# Altium schematic symbol library Motor_parts_sch_lib.SchLib: 2 symbols
Pins are listed as number, name and electrical type; pins without a type are passive.

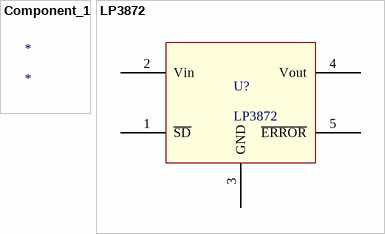
[diagram p0: symbols Component_1 to LP3872]

## Component_1
designator *

## LP3872
designator U?
footprint SOT150P700X180-5N (SOT223, 5-Leads, Body 6.50x7.00mm (avg), Pitch 1.50mm, IPC Medium Density)
pins: 1 ~{SD}, 2 Vin, 3 GND, 4 Vout, 5 ~{ERROR}